# EAGLE library part GE863-PRO (library untitled)
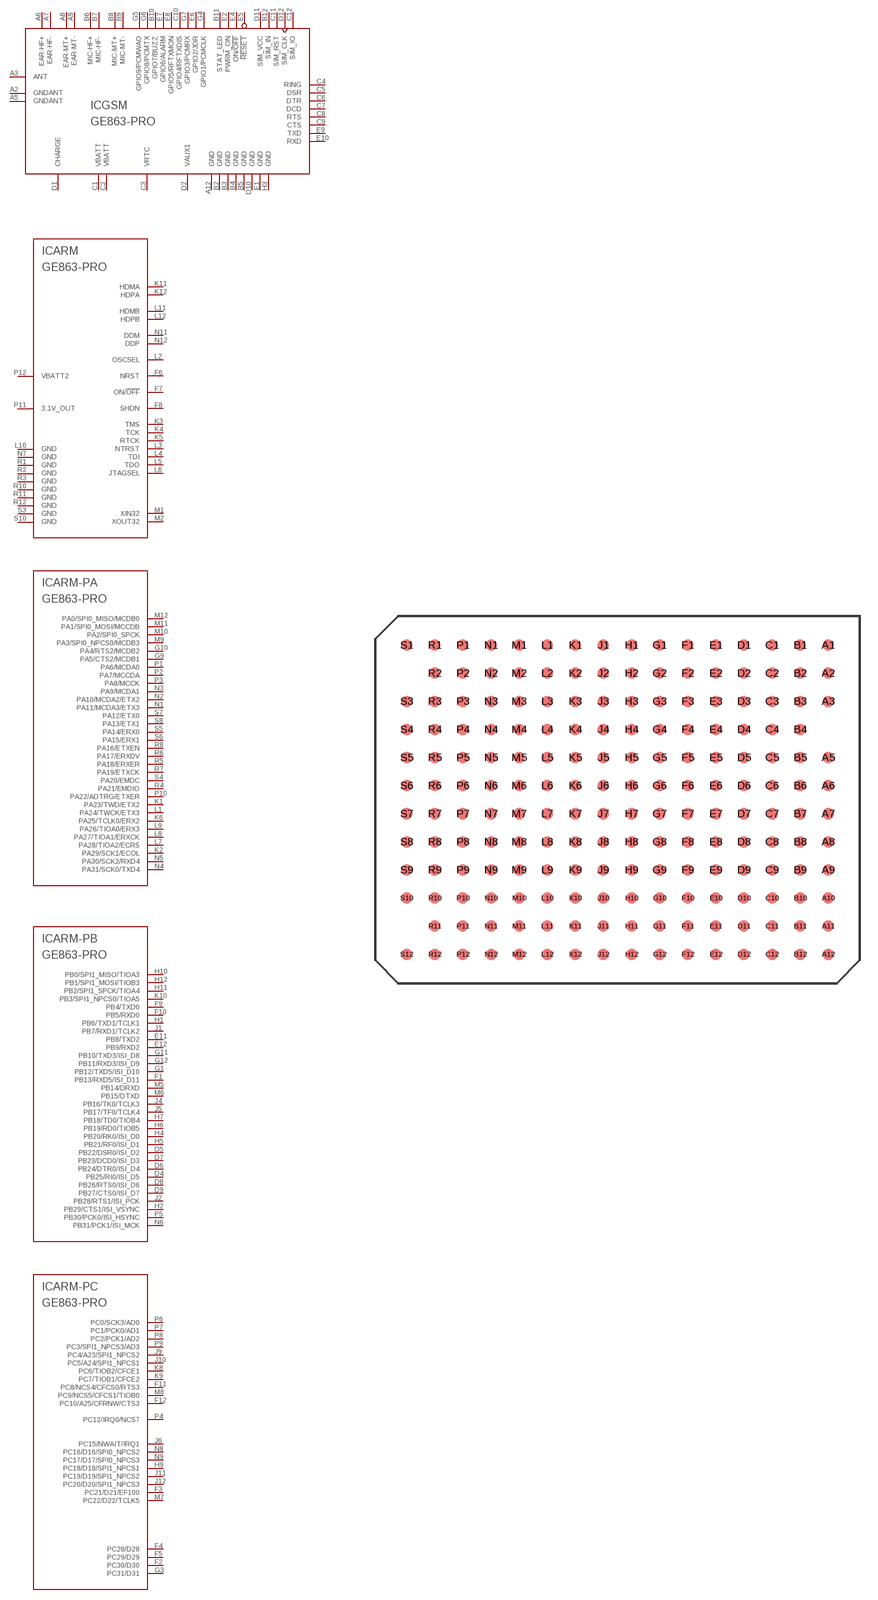
[diagram p0: symbol with the pads of BGA-TELIT-GE863-PRO; footprint BGA-TELIT-GE863-PRO]

Designator prefix IC; gates GSM=TELIT-GE863-PRO-GSM ARM=TELIT-GE863-PRO-ARM ARM-PA=TELIT-GE863-PRO-ARM-PA ARM-PB=TELIT-GE863-PRO-ARM-PB ARM-PC=TELIT-GE863-PRO-ARM-PC

## GE863-PRO  [BGA-TELIT-GE863-PRO]
A2  GSM:GNDANT  pwr
A3  GSM:ANT
A5  GSM:GNDANT  pwr
A6  GSM:EAR-HF+  out
A7  GSM:EAR-HF-  out
A8  GSM:EAR-MT+  out
A9  GSM:EAR-MT-  out
A12  GSM:GND  pwr
B2  GSM:GND  pwr
B3  GSM:GND  pwr
B4  GSM:GND  pwr
B5  GSM:GND  pwr
B6  GSM:MIC-HF+  in
B7  GSM:MIC-HF-  in
B8  GSM:MIC-MT+  in
B9  GSM:MIC-MT-  in
B10  GSM:GPIO7/BUZZ
B11  GSM:STAT_LED  out
B12  GSM:SIM_IN
C1  GSM:VBATT  pwr
C2  GSM:VBATT  pwr
C3  GSM:VRTC  out
C4  GSM:RING  out
C5  GSM:DSR  out
C6  GSM:DTR  in
C7  GSM:DCD  out
C8  GSM:RTS  in
C9  GSM:CTS  out
C10  GSM:GPIO4/RFTXDIS
C11  GSM:SIM_RST  out
C12  GSM:SIM_IO
D1  GSM:CHARGE  pwr
D2  GSM:VAUX1  out
D4  ARM-PB:PB25/RI0/ISI_D5
D5  ARM-PB:PB22/DSR0/ISI_D2
D6  ARM-PB:PB24/DTR0/ISI_D4
D7  ARM-PB:PB23/DCD0/ISI_D3
D8  ARM-PB:PB26/RTS0/ISI_D6
D9  ARM-PB:PB27/CTS0/ISI_D7
D10  GSM:GND  pwr
D11  GSM:SIM_VCC  out
D12  GSM:SIM_CLK  out
E1  GSM:GND  pwr
E2  GSM:PWRM_ON  out
E4  GSM:ON/!OFF  in
E5  GSM:!RESET  in
E6  GSM:GPIO2/JDR
E7  GSM:GPIO6/ALARM
E8  GSM:GPIO5/RFTXMON
E9  GSM:TXD  in
E10  GSM:RXD  out
E11  ARM-PB:PB8/TXD2
E12  ARM-PB:PB9/RXD2
F1  ARM-PB:PB13/RXD5/ISI_D11
F2  ARM-PC:PC30/D30
F3  ARM-PC:PC21/D21/EF100
F4  ARM-PC:PC28/D28
F5  ARM-PC:PC29/D29
F6  ARM:NRST  in
F7  ARM:ON/!OFF  in
F8  ARM:SHDN  out
F9  ARM-PB:PB4/TXD0
F10  ARM-PB:PB5/RXD0
F11  ARM-PC:PC8/NCS4/CFCS0/RTS3
F12  ARM-PC:PC10/A25/CFRNW/CTS3
G1  ARM-PB:PB12/TXD5/ISI_D10
G3  ARM-PC:PC31/D31
G4  GSM:GPIO1/PCMCLK
G5  GSM:GPIO9/PCMWAO
G6  GSM:GPIO8/PCMTX
G7  GSM:GPIO3/PCMRX
G9  ARM-PA:PA5/CTS2/MCDB1
G10  ARM-PA:PA4/RTS2/MCDB2
G11  ARM-PB:PB10/TXD3/ISI_D8
G12  ARM-PB:PB11/RXD3/ISI_D9
H1  ARM-PB:PB6/TXD1/TCLK1
H2  ARM-PB:PB29/CTS1/ISI_VSYNC
H3  GSM:GND  pwr
H4  ARM-PB:PB20/RK0/ISI_D0
H5  ARM-PB:PB21/RF0/ISI_D1
H6  ARM-PB:PB19/RD0/TIOB5
H7  ARM-PB:PB18/TD0/TIOB4
H9  ARM-PC:PC18/D18/SPI1_NPCS1
H10  ARM-PB:PB0/SPI1_MISO/TIOA3
H11  ARM-PB:PB2/SPI1_SPCK/TIOA4
H12  ARM-PB:PB1/SPI1_MOSI/TIOB3
J1  ARM-PB:PB7/RXD1/TCLK2
J2  ARM-PB:PB28/RTS1/ISI_PCK
J4  ARM-PB:PB16/TK0/TCLK3
J5  ARM-PB:PB17/TF0/TCLK4
J6  ARM-PC:PC15/NWAIT/IRQ1
J9  ARM-PC:PC4/A23/SPI1_NPCS2
J10  ARM-PC:PC5/A24/SPI1_NPCS1
J11  ARM-PC:PC19/D19/SPI1_NPCS2
J12  ARM-PC:PC20/D20/SPI1_NPCS3
K1  ARM-PA:PA23/TWD/ETX2
K2  ARM-PA:PA29/SCK1/ECOL
K3  ARM:TMS  in
K4  ARM:TCK  in
K5  ARM:RTCK  out
K6  ARM-PA:PA25/TCLK0/ERX2
K8  ARM-PC:PC6/TIOB2/CFCE1
K9  ARM-PC:PC7/TIOB1/CFCE2
K10  ARM-PB:PB3/SPI1_NPCS0/TIOA5
K11  ARM:HDMA
K12  ARM:HDPA
L1  ARM-PA:PA24/TWCK/ETX3
L2  ARM:OSCSEL  in
L3  ARM:NTRST  in
L4  ARM:TDI  in
L5  ARM:TDO  out
L6  ARM:JTAGSEL  in
L7  ARM-PA:PA28/TIOA2/ECRS
L8  ARM-PA:PA27/TIOA1/ERXCK
L9  ARM-PA:PA26/TIOA0/ERX3
L10  ARM:GND  pwr
L11  ARM:HDMB
L12  ARM:HDPB
M1  ARM:XIN32  in
M2  ARM:XOUT32  out
M5  ARM-PB:PB14/DRXD
M6  ARM-PB:PB15/DTXD
M7  ARM-PC:PC22/D22/TCLK5
M8  ARM-PC:PC9/NCS5/CFCS1/TIOB0
M9  ARM-PA:PA3/SPI0_NPCS0/MCDB3
M10  ARM-PA:PA2/SPI0_SPCK
M11  ARM-PA:PA1/SPI0_MOSI/MCCDB
M12  ARM-PA:PA0/SPI0_MISO/MCDB0
N1  ARM-PA:PA11/MCDA3/ETX3
N2  ARM-PA:PA10/MCDA2/ETX2
N3  ARM-PA:PA9/MCDA1
N4  ARM-PA:PA31/SCK0/TXD4
N5  ARM-PA:PA30/SCK2/RXD4
N6  ARM-PB:PB31/PCK1/ISI_MCK
N7  ARM:GND  pwr
N8  ARM-PC:PC16/D16/SPI0_NPCS2
N9  ARM-PC:PC17/D17/SPI0_NPCS3
N11  ARM:DDM
N12  ARM:DDP
P1  ARM-PA:PA6/MCDA0
P2  ARM-PA:PA7/MCCDA
P3  ARM-PA:PA8/MCCK
P4  ARM-PC:PC12/IRQ0/NCS7
P5  ARM-PB:PB30/PCK0/ISI_HSYNC
P6  ARM-PC:PC0/SCK3/AD0
P7  ARM-PC:PC1/PCK0/AD1
P8  ARM-PC:PC2/PCK1/AD2
P9  ARM-PC:PC3/SPI1_NPCS3/AD3
P10  ARM-PA:PA22/ADTRG/ETXER
P11  ARM:3.1V_OUT  out
P12  ARM:VBATT2  pwr
R1  ARM:GND  pwr
R2  ARM:GND  pwr
R3  ARM:GND  pwr
R4  ARM-PA:PA21/EMDIO
R5  ARM-PA:PA18/ERXER
R6  ARM-PA:PA17/ERXDV
R7  ARM-PA:PA19/ETXCK
R8  ARM-PA:PA16/ETXEN
R10  ARM:GND  pwr
R11  ARM:GND  pwr
R12  ARM:GND  pwr
S3  ARM:GND  pwr
S4  ARM-PA:PA20/EMDC
S5  ARM-PA:PA14/ERX0
S6  ARM-PA:PA15/ERX1
S7  ARM-PA:PA12/ETX0
S8  ARM-PA:PA13/ETX1
S10  ARM:GND  pwr

## Footprint BGA-TELIT-GE863-PRO (pad centres in mm)
smd 1 x 1: A1 18,13.2; A2 18,10.8; A3 18,8.4; A5 18,3.6; A6 18,1.2; A7 18,-1.2; A8 18,-3.6; A9 18,-6; A10 18,-8.4; A11 18,-10.8; A12 18,-13.2; B1 15.6,13.2; B2 15.6,10.8; B3 15.6,8.4; B4 15.6,6; B5 15.6,3.6; B6 15.6,1.2; B7 15.6,-1.2; B8 15.6,-3.6; B9 15.6,-6; B10 15.6,-8.4; B11 15.6,-10.8; B12 15.6,-13.2; C1 13.2,13.2; C2 13.2,10.8; C3 13.2,8.4; C4 13.2,6; C5 13.2,3.6; C6 13.2,1.2; C7 13.2,-1.2; C8 13.2,-3.6; C9 13.2,-6; C10 13.2,-8.4; C11 13.2,-10.8; C12 13.2,-13.2; D1 10.8,13.2; D2 10.8,10.8; D3 10.8,8.4; D4 10.8,6; D5 10.8,3.6; D6 10.8,1.2; D7 10.8,-1.2; D8 10.8,-3.6; D9 10.8,-6; D10 10.8,-8.4; D11 10.8,-10.8; D12 10.8,-13.2; E1 8.4,13.2; E2 8.4,10.8; E3 8.4,8.4; E4 8.4,6; E5 8.4,3.6; E6 8.4,1.2; E7 8.4,-1.2; E8 8.4,-3.6; E9 8.4,-6; E10 8.4,-8.4; E11 8.4,-10.8; E12 8.4,-13.2; F1 6,13.2; F2 6,10.8; F3 6,8.4; F4 6,6; F5 6,3.6; F6 6,1.2; F7 6,-1.2; F8 6,-3.6; F9 6,-6; F10 6,-8.4; F11 6,-10.8; F12 6,-13.2; G1 3.6,13.2; G2 3.6,10.8; G3 3.6,8.4; G4 3.6,6; G5 3.6,3.6; G6 3.6,1.2; G7 3.6,-1.2; G8 3.6,-3.6; G9 3.6,-6; G10 3.6,-8.4; G11 3.6,-10.8; G12 3.6,-13.2; H1 1.2,13.2; H2 1.2,10.8; H3 1.2,8.4; H4 1.2,6; H5 1.2,3.6; H6 1.2,1.2; H7 1.2,-1.2; H8 1.2,-3.6; H9 1.2,-6; H10 1.2,-8.4; H11 1.2,-10.8; H12 1.2,-13.2; J1 -1.2,13.2; J2 -1.2,10.8; J3 -1.2,8.4; J4 -1.2,6; J5 -1.2,3.6; J6 -1.2,1.2; J7 -1.2,-1.2; J8 -1.2,-3.6; J9 -1.2,-6; J10 -1.2,-8.4; J11 -1.2,-10.8; J12 -1.2,-13.2; K1 -3.6,13.2; K2 -3.6,10.8; K3 -3.6,8.4; K4 -3.6,6; K5 -3.6,3.6; K6 -3.6,1.2; K7 -3.6,-1.2; K8 -3.6,-3.6; K9 -3.6,-6; K10 -3.6,-8.4; K11 -3.6,-10.8; K12 -3.6,-13.2; L1 -6,13.2; L2 -6,10.8; L3 -6,8.4; L4 -6,6; L5 -6,3.6; L6 -6,1.2; L7 -6,-1.2; L8 -6,-3.6; L9 -6,-6; L10 -6,-8.4; L11 -6,-10.8; L12 -6,-13.2; M1 -8.4,13.2; M2 -8.4,10.8; M3 -8.4,8.4; M4 -8.4,6; M5 -8.4,3.6; M6 -8.4,1.2; M7 -8.4,-1.2; M8 -8.4,-3.6; M9 -8.4,-6; M10 -8.4,-8.4; M11 -8.4,-10.8; M12 -8.4,-13.2; N1 -10.8,13.2; N2 -10.8,10.8; N3 -10.8,8.4; N4 -10.8,6; N5 -10.8,3.6; N6 -10.8,1.2; N7 -10.8,-1.2; N8 -10.8,-3.6; N9 -10.8,-6; N10 -10.8,-8.4; N11 -10.8,-10.8; N12 -10.8,-13.2; P1 -13.2,13.2; P2 -13.2,10.8; P3 -13.2,8.4; P4 -13.2,6; P5 -13.2,3.6; P6 -13.2,1.2; P7 -13.2,-1.2; P8 -13.2,-3.6; P9 -13.2,-6; P10 -13.2,-8.4; P11 -13.2,-10.8; P12 -13.2,-13.2; R1 -15.6,13.2; R2 -15.6,10.8; R3 -15.6,8.4; R4 -15.6,6; R5 -15.6,3.6; R6 -15.6,1.2; R7 -15.6,-1.2; R8 -15.6,-3.6; R9 -15.6,-6; R10 -15.6,-8.4; R11 -15.6,-10.8; R12 -15.6,-13.2; S1 -18,13.2; S3 -18,8.4; S4 -18,6; S5 -18,3.6; S6 -18,1.2; S7 -18,-1.2; S8 -18,-3.6; S9 -18,-6; S10 -18,-8.4; S12 -18,-13.2